# EAGLE library part STM32F405 (library STMicroelectrionics)
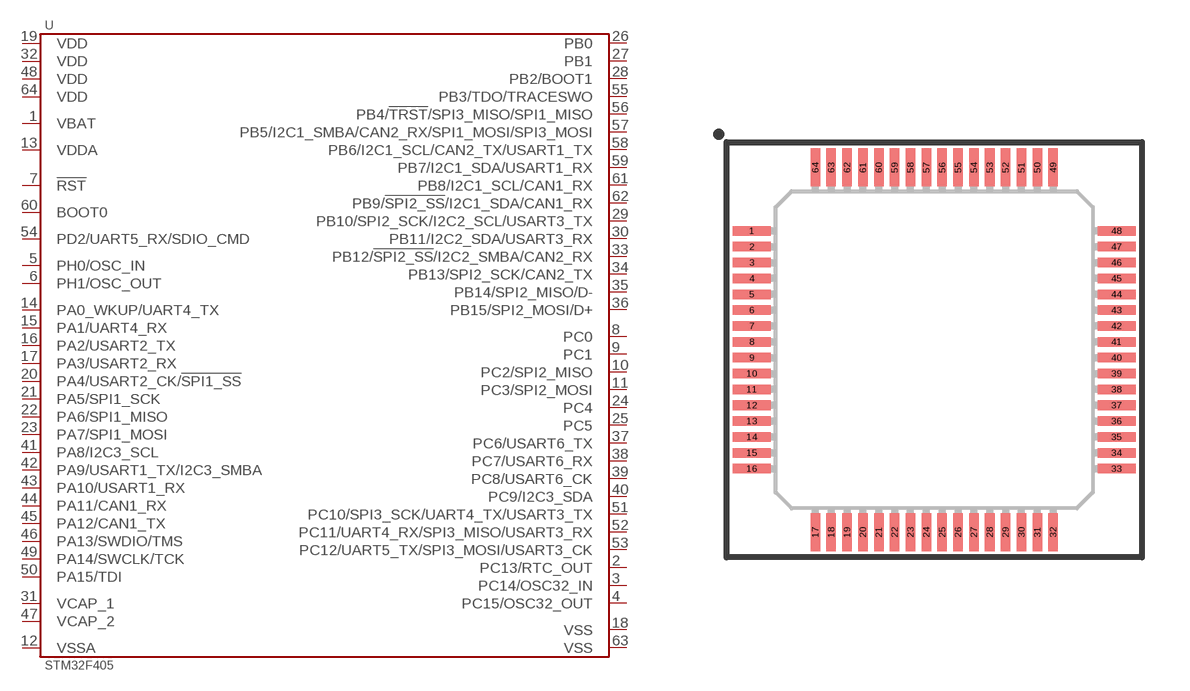
[diagram p11: symbol with the pads of LQFP-64; footprint LQFP-64]

Designator prefix U

## STM32F405RGT6  [LQFP-64]
1  VBAT
2  PC13/RTC_OUT
3  PC14/OSC32_IN
4  PC15/OSC32_OUT
5  PH0/OSC_IN
6  PH1/OSC_OUT
7  !RST
8  PC0
9  PC1
10  PC2/SPI2_MISO
11  PC3/SPI2_MOSI
12  VSSA
13  VDDA
14  PA0_WKUP/UART4_TX
15  PA1/UART4_RX
16  PA2/USART2_TX
17  PA3/USART2_RX
18  VSS
19  VDD
20  PA4/USART2_CK/!SPI1_SS!
21  PA5/SPI1_SCK
22  PA6/SPI1_MISO
23  PA7/SPI1_MOSI
24  PC4
25  PC5
26  PB0
27  PB1
28  PB2/BOOT1
29  PB10/SPI2_SCK/I2C2_SCL/USART3_TX
30  PB11/I2C2_SDA/USART3_RX
31  VCAP_1
32  VDD
33  PB12/!SPI2_SS!/I2C2_SMBA/CAN2_RX
34  PB13/SPI2_SCK/CAN2_TX
35  PB14/SPI2_MISO/D-
36  PB15/SPI2_MOSI/D+
37  PC6/USART6_TX
38  PC7/USART6_RX
39  PC8/USART6_CK
40  PC9/I2C3_SDA
41  PA8/I2C3_SCL
42  PA9/USART1_TX/I2C3_SMBA
43  PA10/USART1_RX
44  PA11/CAN1_RX
45  PA12/CAN1_TX
46  PA13/SWDIO/TMS
47  VCAP_2
48  VDD
49  PA14/SWCLK/TCK
50  PA15/TDI
51  PC10/SPI3_SCK/UART4_TX/USART3_TX
52  PC11/UART4_RX/SPI3_MISO/USART3_RX
53  PC12/UART5_TX/SPI3_MOSI/USART3_CK
54  PD2/UART5_RX/SDIO_CMD
55  PB3/TDO/TRACESWO
56  PB4/!TRST!/SPI3_MISO/SPI1_MISO
57  PB5/I2C1_SMBA/CAN2_RX/SPI1_MOSI/SPI3_MOSI
58  PB6/I2C1_SCL/CAN2_TX/USART1_TX
59  PB7/I2C1_SDA/USART1_RX
60  BOOT0
61  PB8/I2C1_SCL/CAN1_RX
62  PB9/!SPI2_SS!/I2C1_SDA/CAN1_RX
63  VSS
64  VDD

## Footprint LQFP-64 (pad centres in mm)
smd 1.2 x 0.3: 1 -5.75,3.75; 2 -5.75,3.25; 3 -5.75,2.75; 4 -5.75,2.25; 5 -5.75,1.75; 6 -5.75,1.25; 7 -5.75,0.75; 8 -5.75,0.25; 9 -5.75,-0.25; 10 -5.75,-0.75; 11 -5.75,-1.25; 12 -5.75,-1.75; 13 -5.75,-2.25; 14 -5.75,-2.75; 15 -5.75,-3.25; 16 -5.75,-3.75; 33 5.75,-3.75; 34 5.75,-3.25; 35 5.75,-2.75; 36 5.75,-2.25; 37 5.75,-1.75; 38 5.75,-1.25; 39 5.75,-0.75; 40 5.75,-0.25; 41 5.75,0.25; 42 5.75,0.75; 43 5.75,1.25; 44 5.75,1.75; 45 5.75,2.25; 46 5.75,2.75; 47 5.75,3.25; 48 5.75,3.75
smd 0.3 x 1.2: 17 -3.75,-5.75; 18 -3.25,-5.75; 19 -2.75,-5.75; 20 -2.25,-5.75; 21 -1.75,-5.75; 22 -1.25,-5.75; 23 -0.75,-5.75; 24 -0.25,-5.75; 25 0.25,-5.75; 26 0.75,-5.75; 27 1.25,-5.75; 28 1.75,-5.75; 29 2.25,-5.75; 30 2.75,-5.75; 31 3.25,-5.75; 32 3.75,-5.75; 49 3.75,5.75; 50 3.25,5.75; 51 2.75,5.75; 52 2.25,5.75; 53 1.75,5.75; 54 1.25,5.75; 55 0.75,5.75; 56 0.25,5.75; 57 -0.25,5.75; 58 -0.75,5.75; 59 -1.25,5.75; 60 -1.75,5.75; 61 -2.25,5.75; 62 -2.75,5.75; 63 -3.25,5.75; 64 -3.75,5.75